# EAGLE library part TX?-* (library score-relay)
TX Relais NAiS TX-D RELAYS HIGH INSULATION Conforming to the supplementary insulation class of EN Standards (EN41003) Source: http://www.mew-europe.com/.. en_ds_61022_0007.pdf TX-S RELAYS SMALL POLARIZED RELAY WITH HIGH SENSITIVITY 50mW Source: http://www.mew-europe.com/.. en_ds_61022_0022.pdf
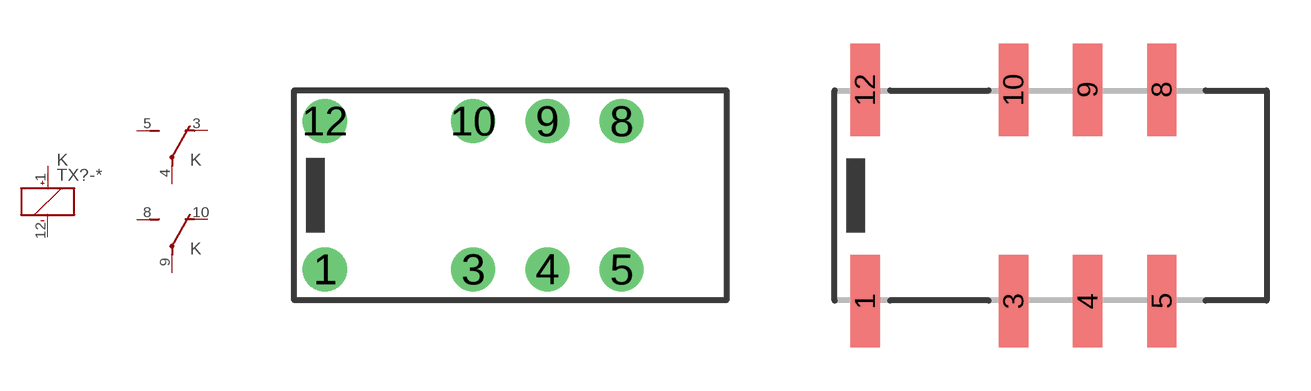
[diagram p72: symbol with the pads of TXD2; footprints TXD2, TXD2SA]

Designator prefix K; gates _=K+- G$1=U G$2=U

## TXD2-1.5V (OC_FARNELL: unknown; OC_NEWARK: unknown), TXD2-12V (MPN: TXD2-12V; OC_FARNELL: unknown; OC_NEWARK: 13P9522), TXD2-24V (MPN: TXD2-24V; OC_FARNELL: unknown; OC_NEWARK: 13P9523), TXD2-3V (MPN: TXD2-3V; OC_FARNELL: unknown; OC_NEWARK: 13P9524), TXD2-4.5V (OC_FARNELL: unknown; OC_NEWARK: unknown), TXD2-5V (MPN: TXD2-5V; OC_FARNELL: unknown; OC_NEWARK: 13P9525), TXD2-6V (OC_FARNELL: unknown; OC_NEWARK: unknown), TXD2-9V (OC_FARNELL: unknown; OC_NEWARK: unknown)  [TXD2]
1  _:+  pas
3  G$1:O  pas
4  G$1:P  pas
5  G$1:S  pas
8  G$2:S  pas
9  G$2:P  pas
10  G$2:O  pas
12  _:-  pas

## TXD2SA-1.5V (OC_FARNELL: unknown; OC_NEWARK: unknown), TXD2SA-12V (MPN: TXD2SA-12V; OC_FARNELL: unknown; OC_NEWARK: 13P9526), TXD2SA-24V (OC_FARNELL: unknown; OC_NEWARK: unknown), TXD2SA-3V (MF: AROMAT/ MATSUSHITA; MPN: TXD2SA-3V; OC_FARNELL: unknown; OC_NEWARK: 11C0176), TXD2SA-4.5V (MPN: TXD2SA-4.5V; OC_FARNELL: unknown; OC_NEWARK: 13P9531), TXD2SA-5V (MPN: TXD2SA-5V; OC_FARNELL: unknown; OC_NEWARK: 13P9532), TXD2SA-6V (MPN: TXD2SA-6V; OC_FARNELL: unknown; OC_NEWARK: 13P9534), TXD2SA-9V (OC_FARNELL: unknown; OC_NEWARK: unknown)  [TXD2SA]
Pads as for TXD2

## TXD2SL-1.5V (OC_FARNELL: unknown; OC_NEWARK: unknown), TXD2SL-12V (OC_FARNELL: unknown; OC_NEWARK: unknown), TXD2SL-24V (OC_FARNELL: unknown; OC_NEWARK: unknown), TXD2SL-3V (MF: AROMAT/ MATSUSHITA; MPN: TXD2SL-3V; OC_FARNELL: unknown; OC_NEWARK: 11C0248), TXD2SL-4.5V (MPN: TXD2SL-4.5V-X; OC_FARNELL: unknown; OC_NEWARK: 11N6056), TXD2SL-5V (OC_FARNELL: unknown; OC_NEWARK: unknown), TXD2SL-6V (OC_FARNELL: unknown; OC_NEWARK: unknown), TXD2SL-9V (OC_FARNELL: unknown; OC_NEWARK: unknown)  [TXD2SL]
Pads as for TXD2

## TXD2SS-1.5V (OC_FARNELL: unknown; OC_NEWARK: unknown), TXD2SS-12V (MPN: TXD2SS-12V-Z; OC_FARNELL: unknown; OC_NEWARK: 13P9535), TXD2SS-24V (MPN: TXD2SS-24V-Z; OC_FARNELL: unknown; OC_NEWARK: 13P9536), TXD2SS-3V (MF: AROMAT/ MATSUSHITA; MPN: TXD2SS-3V; OC_FARNELL: unknown; OC_NEWARK: 11C0320), TXD2SS-4.5V (OC_FARNELL: unknown; OC_NEWARK: unknown), TXD2SS-5V (MF: AROMAT/ MATSUSHITA; MPN: TXD2SS-5V; OC_FARNELL: unknown; OC_NEWARK: 11C0326), TXD2SS-6V (OC_FARNELL: unknown; OC_NEWARK: unknown), TXD2SS-9V (OC_FARNELL: unknown; OC_NEWARK: unknown)  [TXD2SS]
Pads as for TXD2

## TXD2-L-1.5V (OC_FARNELL: unknown; OC_NEWARK: unknown), TXD2-L-12V (OC_FARNELL: unknown; OC_NEWARK: unknown), TXD2-L-24V (OC_FARNELL: unknown; OC_NEWARK: unknown), TXD2-L-3V (OC_FARNELL: unknown; OC_NEWARK: unknown), TXD2-L-4.5V (MF: AROMAT/ MATSUSHITA; MPN: TXD2-L-4.5V; OC_FARNELL: unknown; OC_NEWARK: 11C0103), TXD2-L-5V (OC_FARNELL: unknown; OC_NEWARK: unknown), TXD2-L-6V (OC_FARNELL: unknown; OC_NEWARK: unknown), TXD2-L-9V (OC_FARNELL: unknown; OC_NEWARK: unknown)  [TXD2]
1  _:-  pas
3  G$1:O  pas
4  G$1:P  pas
5  G$1:S  pas
8  G$2:S  pas
9  G$2:P  pas
10  G$2:O  pas
12  _:+  pas

## TXD2SA-L-1.5V (OC_FARNELL: unknown; OC_NEWARK: unknown), TXD2SA-L-12V (OC_FARNELL: unknown; OC_NEWARK: unknown), TXD2SA-L-24V (OC_FARNELL: unknown; OC_NEWARK: unknown), TXD2SA-L-3V (OC_FARNELL: unknown; OC_NEWARK: unknown), TXD2SA-L-4.5V (OC_FARNELL: unknown; OC_NEWARK: unknown), TXD2SA-L-5V (OC_FARNELL: unknown; OC_NEWARK: unknown), TXD2SA-L-6V (OC_FARNELL: unknown; OC_NEWARK: unknown), TXD2SA-L-9V (OC_FARNELL: unknown; OC_NEWARK: unknown)  [TXD2SA]
Pads as for TXD2

## TXD2SL-L-1.5V (OC_FARNELL: unknown; OC_NEWARK: unknown), TXD2SL-L-12V (MPN: TXD2SL-L-12V; OC_FARNELL: unknown; OC_NEWARK: 15P9956), TXD2SL-L-24V (MPN: TXD2SL-L-24V; OC_FARNELL: unknown; OC_NEWARK: 15P9958), TXD2SL-L-3V (OC_FARNELL: unknown; OC_NEWARK: unknown), TXD2SL-L-4.5V (OC_FARNELL: unknown; OC_NEWARK: unknown), TXD2SL-L-5V (MPN: TXD2SL-L-5V; OC_FARNELL: unknown; OC_NEWARK: 15P9960), TXD2SL-L-6V (OC_FARNELL: unknown; OC_NEWARK: unknown), TXD2SL-L-9V (OC_FARNELL: unknown; OC_NEWARK: unknown)  [TXD2SL]
Pads as for TXD2

## TXD2SS-L-1.5V (OC_FARNELL: unknown; OC_NEWARK: unknown), TXD2SS-L-12V (OC_FARNELL: unknown; OC_NEWARK: unknown), TXD2SS-L-24V (OC_FARNELL: unknown; OC_NEWARK: unknown), TXD2SS-L-3V (OC_FARNELL: unknown; OC_NEWARK: unknown), TXD2SS-L-4.5V (OC_FARNELL: unknown; OC_NEWARK: unknown), TXD2SS-L-5V (OC_FARNELL: unknown; OC_NEWARK: unknown), TXD2SS-L-6V (OC_FARNELL: unknown; OC_NEWARK: unknown), TXD2SS-L-9V (OC_FARNELL: unknown; OC_NEWARK: unknown)  [TXD2SS]
Pads as for TXD2

## TXD2-2M-1.5V (OC_FARNELL: unknown; OC_NEWARK: unknown), TXD2-2M-12V (OC_FARNELL: unknown; OC_NEWARK: unknown), TXD2-2M-24V (OC_FARNELL: unknown; OC_NEWARK: unknown), TXD2-2M-3V (OC_FARNELL: unknown; OC_NEWARK: unknown), TXD2-2M-4.5V (OC_FARNELL: unknown; OC_NEWARK: unknown), TXD2-2M-5V (OC_FARNELL: unknown; OC_NEWARK: unknown), TXD2-2M-6V (OC_FARNELL: unknown; OC_NEWARK: unknown), TXD2-2M-9V (OC_FARNELL: unknown; OC_NEWARK: unknown)  [TXD2]
Pads as for TXD2

## TXD2SA-2M-1.5V (OC_FARNELL: unknown; OC_NEWARK: unknown), TXD2SA-2M-12V (OC_FARNELL: unknown; OC_NEWARK: unknown), TXD2SA-2M-24V (OC_FARNELL: unknown; OC_NEWARK: unknown), TXD2SA-2M-3V (OC_FARNELL: unknown; OC_NEWARK: unknown), TXD2SA-2M-4.5V (OC_FARNELL: unknown; OC_NEWARK: unknown), TXD2SA-2M-5V (OC_FARNELL: unknown; OC_NEWARK: unknown), TXD2SA-2M-6V (OC_FARNELL: unknown; OC_NEWARK: unknown), TXD2SA-2M-9V (OC_FARNELL: unknown; OC_NEWARK: unknown)  [TXD2SA]
Pads as for TXD2

## TXD2SL-2M-1.5V (OC_FARNELL: unknown; OC_NEWARK: unknown), TXD2SL-2M-12V (OC_FARNELL: unknown; OC_NEWARK: unknown), TXD2SL-2M-24V (OC_FARNELL: unknown; OC_NEWARK: unknown), TXD2SL-2M-3V (OC_FARNELL: unknown; OC_NEWARK: unknown), TXD2SL-2M-4.5V (OC_FARNELL: unknown; OC_NEWARK: unknown), TXD2SL-2M-5V (OC_FARNELL: unknown; OC_NEWARK: unknown), TXD2SL-2M-6V (OC_FARNELL: unknown; OC_NEWARK: unknown), TXD2SL-2M-9V (OC_FARNELL: unknown; OC_NEWARK: unknown)  [TXD2SL]
Pads as for TXD2

## TXD2SS-2M-1.5V (OC_FARNELL: unknown; OC_NEWARK: unknown), TXD2SS-2M-12V (MF: AROMAT/ MATSUSHITA; MPN: TXD2SS-2M-12V; OC_FARNELL: unknown; OC_NEWARK: 11C0296), TXD2SS-2M-24V (OC_FARNELL: unknown; OC_NEWARK: unknown), TXD2SS-2M-3V (OC_FARNELL: unknown; OC_NEWARK: unknown), TXD2SS-2M-4.5V (OC_FARNELL: unknown; OC_NEWARK: unknown), TXD2SS-2M-5V (OC_FARNELL: unknown; OC_NEWARK: unknown), TXD2SS-2M-6V (OC_FARNELL: unknown; OC_NEWARK: unknown), TXD2SS-2M-9V (OC_FARNELL: unknown; OC_NEWARK: unknown)  [TXD2SS]
Pads as for TXD2

## TXS2-1.5V (OC_FARNELL: unknown; OC_NEWARK: unknown), TXS2-12V (MPN: TXS2-12V; OC_FARNELL: unknown; OC_NEWARK: 13P9539), TXS2-24V (MPN: TXS2-24V; OC_FARNELL: unknown; OC_NEWARK: 13P9540), TXS2-3V (MPN: TXS2-3V; OC_FARNELL: unknown; OC_NEWARK: 13P9541), TXS2-4.5V (MPN: TXS2-4.5V; OC_FARNELL: 1608335; OC_NEWARK: 13P9542), TXS2-5V (OC_FARNELL: unknown; OC_NEWARK: unknown), TXS2-6V (MPN: TXS2-6V; OC_FARNELL: unknown; OC_NEWARK: 13P9543), TXS2-9V (MPN: TXS2-9V; OC_FARNELL: unknown; OC_NEWARK: 11N6058)  [TXD2]
Pads as for TXD2

## TXS2-L-1.5V (MPN: TXS2-L-1.5V; OC_FARNELL: unknown; OC_NEWARK: 12N3844), TXS2-L-12V (MPN: TXS2-L-12V; OC_FARNELL: unknown; OC_NEWARK: 12N3845), TXS2-L-24V (MPN: TXS2-L-24V; OC_FARNELL: unknown; OC_NEWARK: 12N3846), TXS2-L-3V (MPN: TXS2-L-3V; OC_FARNELL: unknown; OC_NEWARK: 15P9962), TXS2-L-4.5V (MPN: TXS2-L-4.5V; OC_FARNELL: unknown; OC_NEWARK: 15P9963), TXS2-L-5V (OC_FARNELL: unknown; OC_NEWARK: unknown), TXS2-L-6V (OC_FARNELL: unknown; OC_NEWARK: unknown), TXS2-L-9V (MPN: TXS2-L-9V; OC_FARNELL: unknown; OC_NEWARK: 12N3848)  [TXD2]
Pads as for TXD2

## TXS2SA--1.5V (MPN: TXS2SA-1.5V; OC_FARNELL: unknown; OC_NEWARK: 11N6059), TXS2SA--12V (MPN: TXS2SA-12V; OC_FARNELL: 1231846; OC_NEWARK: 13P9545), TXS2SA--24V (MF: AROMAT/ MATSUSHITA; MPN: TXS2SA-24V; OC_FARNELL: unknown; OC_NEWARK: 11C0345), TXS2SA--3V (MPN: TXS2SA-3V; OC_FARNELL: unknown; OC_NEWARK: 11N6066), TXS2SA--4.5V (MPN: TXS2SA-4.5V; OC_FARNELL: unknown; OC_NEWARK: 13P9550), TXS2SA--5V (OC_FARNELL: unknown; OC_NEWARK: unknown), TXS2SA--6V (MPN: TXS2SA-6V; OC_FARNELL: unknown; OC_NEWARK: 13P9552), TXS2SA--9V (MF: AROMAT/ MATSUSHITA; MPN: TXS2SA-9V; OC_FARNELL: unknown; OC_NEWARK: 97H8371)  [TXD2SA]
Pads as for TXD2

## TXS2SL--1.5V (MPN: TXS2SL-1.5V; OC_FARNELL: unknown; OC_NEWARK: 11N6074), TXS2SL--12V (MPN: TXS2SL-12V; OC_FARNELL: unknown; OC_NEWARK: 11N6077), TXS2SL--24V (MPN: TXS2SL-24V; OC_FARNELL: unknown; OC_NEWARK: 11N6081), TXS2SL--3V (MPN: TXS2SL-3V-Z; OC_FARNELL: unknown; OC_NEWARK: 13P9555), TXS2SL--4.5V (MPN: TXS2SL-4.5V; OC_FARNELL: unknown; OC_NEWARK: 13P9556), TXS2SL--5V (OC_FARNELL: unknown; OC_NEWARK: unknown), TXS2SL--6V (MPN: TXS2SL-6V; OC_FARNELL: unknown; OC_NEWARK: 11N6087), TXS2SL--9V (MPN: TXS2SL-9V; OC_FARNELL: unknown; OC_NEWARK: 11N6090)  [TXD2SL]
Pads as for TXD2

## TXS2SS--1.5V (MPN: TXS2SS-1.5V; OC_FARNELL: unknown; OC_NEWARK: 11N6094), TXS2SS--12V (MPN: TXS2SS-12V; OC_FARNELL: unknown; OC_NEWARK: 13P9561), TXS2SS--24V (MPN: TXS2SS-24V-Z; OC_FARNELL: unknown; OC_NEWARK: 13P9563), TXS2SS--3V (MPN: TXS2SS-3V-Z; OC_FARNELL: unknown; OC_NEWARK: 13P9564), TXS2SS--4.5V (MPN: TXS2SS-4.5V; OC_FARNELL: unknown; OC_NEWARK: 13P9565), TXS2SS--5V (OC_FARNELL: unknown; OC_NEWARK: unknown), TXS2SS--6V (MPN: TXS2SS-6V; OC_FARNELL: unknown; OC_NEWARK: 11N6103), TXS2SS--9V (MPN: TXS2SS-9V; OC_FARNELL: unknown; OC_NEWARK: 11N6106)  [TXD2SS]
Pads as for TXD2

## TXS2SA-L--1.5V (MPN: TXS2SA-L-1.5V; OC_FARNELL: unknown; OC_NEWARK: 12N3853), TXS2SA-L--12V (MPN: TXS2SA-L-12V; OC_FARNELL: unknown; OC_NEWARK: 12N3856), TXS2SA-L--24V (MPN: TXS2SA-L-24V; OC_FARNELL: unknown; OC_NEWARK: 12N3859), TXS2SA-L--3V (MPN: TXS2SA-L-3V; OC_FARNELL: unknown; OC_NEWARK: 12N3862), TXS2SA-L--4.5V (MPN: TXS2SA-L-4.5V; OC_FARNELL: unknown; OC_NEWARK: 15P9968), TXS2SA-L--5V (MPN: TXS2SA-L-5V; OC_FARNELL: unknown; OC_NEWARK: 12N3867), TXS2SA-L--6V (MPN: TXS2SA-L-6V; OC_FARNELL: unknown; OC_NEWARK: 12N3870), TXS2SA-L--9V (MPN: TXS2SA-L-9V; OC_FARNELL: unknown; OC_NEWARK: 12N3873)  [TXD2SA]
Pads as for TXD2

## TXS2SL-L-1.5V (MPN: TXS2SL-L-1.5V; OC_FARNELL: unknown; OC_NEWARK: 12N3892), TXS2SL-L-12V (MPN: TXS2SL-L-12V; OC_FARNELL: unknown; OC_NEWARK: 12N3895), TXS2SL-L-24V (MPN: TXS2SL-L-24V; OC_FARNELL: unknown; OC_NEWARK: 12N3898), TXS2SL-L-3V (MPN: TXS2SL-L-3V; OC_FARNELL: unknown; OC_NEWARK: 12N3902), TXS2SL-L-4.5V (MPN: TXS2SL-L-4.5V; OC_FARNELL: unknown; OC_NEWARK: 12N3905), TXS2SL-L-5V (OC_FARNELL: unknown; OC_NEWARK: unknown), TXS2SL-L-6V (MPN: TXS2SL-L-6V; OC_FARNELL: unknown; OC_NEWARK: 12N3908), TXS2SL-L-9V (MPN: TXS2SL-L-9V; OC_FARNELL: unknown; OC_NEWARK: 12N3911)  [TXD2SL]
Pads as for TXD2

## TXS2SS-L-1.5V (MPN: TXS2SS-L-1.5V; OC_FARNELL: unknown; OC_NEWARK: 12N3933), TXS2SS-L-12V (MPN: TXS2SS-L-12V; OC_FARNELL: unknown; OC_NEWARK: 12N3936), TXS2SS-L-24V (MPN: TXS2SS-L-24V; OC_FARNELL: unknown; OC_NEWARK: 12N3939), TXS2SS-L-3V (MPN: TXS2SS-L-3V; OC_FARNELL: unknown; OC_NEWARK: 12N3942), TXS2SS-L-4.5V (MPN: TXS2SS-L-4.5V; OC_FARNELL: unknown; OC_NEWARK: 12N3945), TXS2SS-L-5V (OC_FARNELL: unknown; OC_NEWARK: unknown), TXS2SS-L-6V (MPN: TXS2SS-L-6V; OC_FARNELL: unknown; OC_NEWARK: 12N3948), TXS2SS-L-9V (MPN: TXS2SS-L-9V; OC_FARNELL: unknown; OC_NEWARK: 12N3951)  [TXD2SS]
Pads as for TXD2

## Footprint TXD2 (pad centres in mm)
HIGH INSULATION RELAYS NAiS Conforming to the supplementary insulation class of EN Standards (EN41003) Source: http://www.mew-europe.com/.. en_ds_61022_0007.pdf
drill 1: 1 -6.35,-2.54; 3 -1.27,-2.54; 4 1.27,-2.54; 5 3.81,-2.54; 8 3.81,2.54; 9 1.27,2.54; 10 -1.27,2.54; 12 -6.35,2.54

## Footprint TXD2SA (pad centres in mm)
HIGH INSULATION RELAYS NAiS Conforming to the supplementary insulation class of EN Standards (EN41003) Source: http://www.mew-europe.com/.. en_ds_61022_0007.pdf
smd 1 x 3.16: 1 -6.35,-3.62; 3 -1.27,-3.62; 4 1.27,-3.62; 5 3.81,-3.62; 8 3.81,3.62; 9 1.27,3.62; 10 -1.27,3.62; 12 -6.35,3.62

## Footprint TXD2SL (pad centres in mm)
HIGH INSULATION RELAYS NAiS Conforming to the supplementary insulation class of EN Standards (EN41003) Source: http://www.mew-europe.com/.. en_ds_61022_0007.pdf
smd 1 x 3.16: 1 -6.35,-3.62; 3 -1.27,-3.62; 4 1.27,-3.62; 5 3.81,-3.62; 8 3.81,3.62; 9 1.27,3.62; 10 -1.27,3.62; 12 -6.35,3.62

## Footprint TXD2SS (pad centres in mm)
HIGH INSULATION RELAYS NAiS Conforming to the supplementary insulation class of EN Standards (EN41003) Source: http://www.mew-europe.com/.. en_ds_61022_0007.pdf
smd 1 x 2.16: 1 -6.35,-3.12; 3 -1.27,-3.12; 4 1.27,-3.12; 5 3.81,-3.12; 8 3.81,3.12; 9 1.27,3.12; 10 -1.27,3.12; 12 -6.35,3.12